# Altium integrated library Altium_IC.IntLib: 17 symbols
Pins are listed as number, name and electrical type; pins without a type are passive.

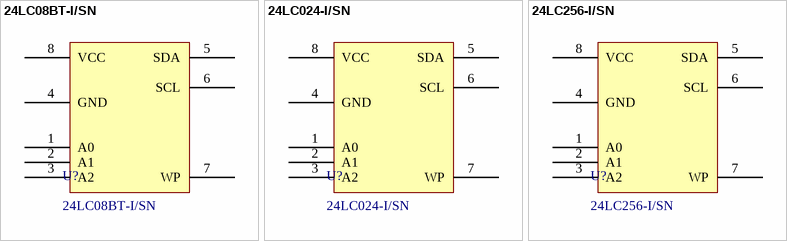
[diagram p0: symbols 24LC08BT-I/SN to 24LC256-I/SN]

## 24LC08BT-I/SN
designator U?
8 Kbit Electrically Erasable PROM; Manufacturer: Microchip; Interface Type: 2-Wire, I2C; Maximum Clock Frequency: 400 kHz; Memory Size: 8 kbit; Supply 1 Name: Mouser; Supply 1 SN: 579-24LC08BT-I/SN; Supply 2 Name: Digikey; Supply 2 SN: 24LC08BT-I/SNTR-ND; Supply 3 Name: thegioiic; Supply Voltage: 2.5 V - 5.5 V; ComponentLink1Description: Datasheet link; ComponentLink1URL: https://www.mouser.vn/datasheet/2/268/24AA08_24LC08B_24FC08_8K_I2C_Serial_EEPROM_2000171-2577012.pdf; ComponentLink2Description: Supply 1 URL; ComponentLink2URL: https://www.mouser.vn/ProductDetail/Microchip-Technology/24LC08BT-I-SN?qs=XNV0BZVlaZHdLDEb4lQBIw%3D%3D; ComponentLink3Description: Supply 2 URL; ComponentLink3URL: https://www.digikey.com/en/products/detail/microchip-technology/24lc08bt-i-sn/318673; ComponentLink4Description: Supply 3 URL; ComponentLink4URL: https://www.thegioiic.com/24lc08b-i-sn-ic-eeprom-8kbit-8-soic; IC Name: 24LC08BT-I/SN; Mounting Style: SMD/SMT; Package: SOIC-8; Supply 3 SN: N/A
footprint 24LCxxx-I/SN (SOIC, 8-Leads, Body 4.90x3.90mm, Pitch 1.27mm, IPC Medium Density)
pins: 1 A0, 2 A1, 3 A2, 4 GND, 5 SDA, 6 SCL, 7 WP, 8 VCC

## 24LC024-I/SN
designator U?
2 Kbit Electrically Erasable PROM; Manufacturer: Microchip; Interface Type: 2-Wire, I2C; Maximum Clock Frequency: 400 kHz; Memory Size: 2 kbit; Supply 1 Name: Mouser; Supply 1 SN: 579-24LC024-I/SN; Supply 2 Name: Digikey; Supply 2 SN: 24LC024-I/SN-ND; Supply 3 Name: thegioiic; Supply Voltage: 2.5 V - 5.5 V; ComponentLink1Description: Datasheet link; ComponentLink1URL: https://www.mouser.vn/datasheet/2/268/24AA024_24LC024_24AA025_24LC025_2_Kbit_I2C_Serial_-3005761.pdf; ComponentLink2Description: Supply 1 URL; ComponentLink2URL: https://www.mouser.vn/ProductDetail/Microchip-Technology/24LC024-I-SN?qs=qEm8%2FJMJY4oS3QxbKWHseA%3D%3D; ComponentLink3Description: Supply 2 URL; ComponentLink3URL: https://www.digikey.com/en/products/detail/microchip-technology/24lc024-i-sn/318656; ComponentLink4Description: Supply 3 URL; ComponentLink4URL: https://www.thegioiic.com/24lc024-i-sn-ic-eeprom-2kbit-8-soic; IC Name: 24LC024-I/SN; Mounting Style: SMD/SMT; Package: SOIC-8; Supply 3 SN: N/A
footprint 24LCxxx-I/SN (SOIC, 8-Leads, Body 4.90x3.90mm, Pitch 1.27mm, IPC Medium Density)
pins: 1 A0, 2 A1, 3 A2, 4 GND, 5 SDA, 6 SCL, 7 WP, 8 VCC

## 24LC256-I/SN
designator U?
256 Kbit Electrically Erasable PROM; Manufacturer: Microchip; Interface Type: 2-Wire, I2C; Maximum Clock Frequency: 400 kHz; Supply 1 Name: Mouser; Supply 1 SN: 579-24LC256-I/SN; Supply 2 Name: Digikey; Supply 2 SN: 24LC256-I/SN-ND; Supply 3 Name: thegioiic; Supply Voltage: 2.5 V - 5.5 V; ComponentLink1Description: Datasheet link; ComponentLink1URL: https://www.mouser.vn/datasheet/2/268/24AA256_24LC256_24FC256_256K_I2C_Serial_EEPROM_DS2-3005041.pdf; ComponentLink2Description: Supply 1 URL; ComponentLink2URL: https://www.mouser.vn/ProductDetail/Microchip-Technology/24LC256-I-SN?qs=XNV0BZVlaZFRtjzs8l%252BLRw%3D%3D; ComponentLink3Description: Supply 2 URL; ComponentLink3URL: https://www.digikey.com/en/products/detail/microchip-technology/24lc256-i-sn/440169; ComponentLink4Description: Supply 3 URL; ComponentLink4URL: https://www.thegioiic.com/24lc256-i-sn-ic-eeprom-256kbit-8-soic; IC Name: 24LC256-I/SN; Memory Size: 256 kbit; Mounting Style: SMD/SMT; Package: SOIC-8; Supply 3 SN: N/A
footprint 24LCxxx-I/SN (SOIC, 8-Leads, Body 4.90x3.90mm, Pitch 1.27mm, IPC Medium Density)
pins: 1 A0, 2 A1, 3 A2, 4 GND, 5 SDA, 6 SCL, 7 WP, 8 VCC


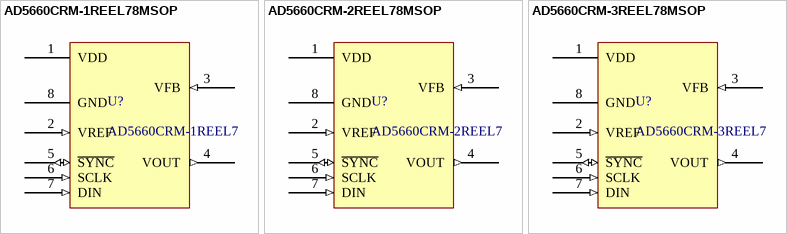
[diagram p1: symbols AD5660CRM-1REEL78MSOP to AD5660CRM-3REEL78MSOP]

## AD5660CRM-1REEL78MSOP
designator U?, comment AD5660CRM-1REEL7
IC DAC 16BIT V-OUT 8MSOP,; Manufacturer: Analog Devices; Number of Converters: 1; Supply Voltage: 2.7 V - 5.5 V; Power Dissipation: 5 mW; Internal Reference: 1.25 V; Sampling Rate: 125 kS/s; Supply 1 Name: Mouser; Supply 1 SN: 584-AD5660CRM-1R7; Supply 2 Name: Digikey; Supply 2 SN: AD5660CRM-1REEL7TR-ND; IC Name: AD5660CRM-1REEL7; Mounting Style: SMD/SMT; Package: MSOP-8; Resolution: 16 bit; ComponentLink1Description: Datasheet link; ComponentLink1URL: https://www.analog.com/media/en/technical-documentation/data-sheets/AD5620_5640_5660.pdf; ComponentLink2Description: Supply 1 URL; ComponentLink2URL: https://www.mouser.vn/ProductDetail/Analog-Devices/AD5660CRM-1REEL7?qs=NmRFExCfTkF7eZy1gDR%252BPw%3D%3D; ComponentLink3Description: Supply 2 URL; ComponentLink3URL: https://www.digikey.com/en/products/detail/analog-devices-inc/AD5660CRM-1REEL7/1217990?s=N4IgTCBcDaIIIBECsA2FAGAwgJQLIFoBGbAURIBkB2EAXQF8g
footprint AD5660xx family (TSOP, 8-Leads, Body 3.00x3.00mm, Pitch 0.65mm, IPC Medium Density)
pins: 1 VDD (power), 2 VREF (in), 3 VFB (in), 4 VOUT (out), 5 ~{SYNC} (io), 6 SCLK (in), 7 DIN (in), 8 GND (power)

## AD5660CRM-2REEL78MSOP
designator U?, comment AD5660CRM-2REEL7
IC DAC 16BIT V-OUT 8MSOP,; Manufacturer: Analog Devices; Number of Converters: 1; Supply Voltage: 2.7 V - 5.5 V; Power Dissipation: 5 mW; Internal Reference: 2.5 V; Sampling Rate: 125 kS/s; Supply 1 Name: Mouser; Supply 1 SN: 584-AD5660CRM-2R7; Supply 2 Name: Digikey; Supply 2 SN: AD5660CRM-2REEL7TR-ND; IC Name: AD5660CRM-2REEL7; Mounting Style: SMD/SMT; Package: MSOP-8; Resolution: 16 bit; ComponentLink1Description: Datasheet link; ComponentLink1URL: https://www.analog.com/media/en/technical-documentation/data-sheets/AD5620_5640_5660.pdf; ComponentLink2Description: Supply 1 URL; ComponentLink2URL: https://www.mouser.vn/ProductDetail/Analog-Devices/AD5660CRM-2REEL7?qs=NmRFExCfTkG3cHMgY6ItXg%3D%3D; ComponentLink3Description: Supply 2 URL; ComponentLink3URL: https://www.digikey.com/en/products/detail/analog-devices-inc/AD5660CRM-2REEL7/1217992?s=N4IgTCBcDaIIIBECsA2FAGAwgJQLIFoxsBRYgGQHYACEAXQF8g
footprint AD5660xx family (TSOP, 8-Leads, Body 3.00x3.00mm, Pitch 0.65mm, IPC Medium Density)
pins: 1 VDD (power), 2 VREF (in), 3 VFB (in), 4 VOUT (out), 5 ~{SYNC} (io), 6 SCLK (in), 7 DIN (in), 8 GND (power)

## AD5660CRM-3REEL78MSOP
designator U?, comment AD5660CRM-3REEL7
IC DAC 16BIT V-OUT 8MSOP,; Manufacturer: Analog Devices; Number of Converters: 1; Supply Voltage: 2.7 V - 5.5 V; Power Dissipation: 5 mW; Internal Reference: 2.5 V; Sampling Rate: 125 kS/s; Supply 1 Name: Mouser; Supply 2 Name: Digikey; Supply 2 SN: AD5660CRM-3REEL7-ND; IC Name: AD5660CRM-3REEL7; Mounting Style: SMD/SMT; Package: MSOP-8; Resolution: 16 bit; Supply 1 SN: N/A; ComponentLink1Description: Datasheet link; ComponentLink1URL: https://www.analog.com/media/en/technical-documentation/data-sheets/AD5620_5640_5660.pdf; ComponentLink2Description: Supply 1 URL; ComponentLink2URL: https://www.mouser.vn/ProductDetail/Analog-Devices/AD5660CRM-3REEL7?qs=BJlw7L4Cy7%2FlHgHV8swbkw%3D%3D; ComponentLink3Description: Supply 2 URL; ComponentLink3URL: https://www.digikey.com/en/products/detail/analog-devices-inc/AD5660CRM-3REEL7/1217994?s=N4IgTCBcDaIIIBECsA2FAGAwgJQLIFoBmbAURIBkB2AAhAF0BfIA
footprint AD5660xx family (TSOP, 8-Leads, Body 3.00x3.00mm, Pitch 0.65mm, IPC Medium Density)
pins: 1 VDD (power), 2 VREF (in), 3 VFB (in), 4 VOUT (out), 5 ~{SYNC} (io), 6 SCLK (in), 7 DIN (in), 8 GND (power)


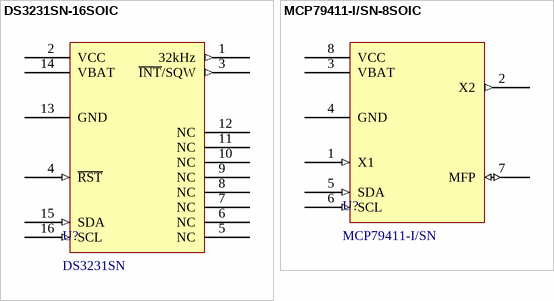
[diagram p2: symbols DS3231SN-16SOIC to MCP79411-I/SN-8SOIC]

## DS3231SN-16SOIC
designator U?, comment DS3231SN
IC RTC CLK/CALENDAR I2C 16SOIC; Manufacturer: Analog Devices Inc./Maxim Integrated; Manufacturer Standard Lead Time: 30 Weeks; Supply Voltage: 2.3 V - 5.5 V; Operating Supply Current: 110 - 170 (µA); RTC Bus Interface: I2C, Serial; Date Format: YY-MM-DD-dd; Time Format: HH:MM:SS (12 hr, 24 hr); Supply 1 Name: Mouser; Supply 1 SN: 700-DS3231SN-; Supply 2 Name: Digikey; Supply 2 SN: DS3231SN#-ND; Supply 3 Name: thegioiic; IC Name: DS3231SN; Mounting Style: SMD/SMT; Package: 16SOIC; ComponentLink1Description: Datasheet link; ComponentLink1URL: https://www.analog.com/media/en/technical-documentation/data-sheets/DS3231.pdf; ComponentLink2Description: Supply 1 URL; ComponentLink2URL: https://www.mouser.com/ProductDetail/Analog-Devices-Maxim-Integrated/DS3231SN?qs=ffX8NcjNb2RmKAb9wAk9Ug%3D%3D; ComponentLink3Description: Supply 2 URL; ComponentLink3URL: https://www.digikey.com/en/products/detail/analog-devices-inc-maxim-integrated/DS3231SN/1197576; Supply 3 SN: N/A; ComponentLink4Description: Supply 3 URL; ComponentLink4URL: https://www.thegioiic.com/ds3231sn-ic-rtc-clock-calendar-16-soic
footprint DS3231SN-16SOIC (SOIC, 16-Leads, Body 11.55x7.50mm, Pitch 1.27mm, IPC Medium Density)
pins: 1 32kHz (out), 2 VCC (power), 3 ~{INT}/SQW (out), 4 ~{RST} (in), 5 NC, 6 NC, 7 NC, 8 NC, 9 NC, 10 NC, 11 NC, 12 NC, 13 GND (power), 14 VBAT (power), 15 SDA (in), 16 SCL (in)

## MCP79411-I/SN-8SOIC
designator U?, comment MCP79411-I/SN
IC RTC CLK/CALENDAR I2C 8SOIC; Manufacturer: Microchip Technology; IC Name: W25Q64FVSSIG; RTC Memory Size: 64B, 1Kb; Supply Voltage: 1.8 V - 5.5 V; Operating Supply Current: 1 uA; RTC Bus Interface: I2C, Serial; Date Format: YY-MM-DD-dd; Time Format: HH:MM:SS (12 hr, 24 hr); Supply 1 Name: Mouser; Supply 1 SN: 579-MCP79411ISN; Supply 2 Name: Digikey; Supply 2 SN: MCP79411-I/SN-ND; Mounting Style: SMD/SMT; Package: 8SOIC; ComponentLink1Description: Datasheet link; ComponentLink1URL: https://ww1.microchip.com/downloads/en/DeviceDoc/MCP79410-MCP79411-MCP79412-Battery-Backed%20I2C-RTCC-20002266J.pdf; ComponentLink2Description: Supply 1 URL; ComponentLink2URL: https://www.mouser.com/ProductDetail/Microchip-Technology/MCP79411-I-SN?qs=ggQiQSXuoRVyEhJRVDc7Dw%3D%3D; ComponentLink3Description: Supply 2 URL; ComponentLink3URL: https://www.digikey.com/en/products/detail/microchip-technology/MCP79411-I-SN/2601461?s=N4IgTCBcDaIKwHYCcBaAsgYQArICwEZ8BJAZQDkQBdAXyA
footprint MCP79411-I/SN-8SOIC (SOIC, 8-Leads, Body 4.90x3.90mm, Pitch 1.27mm, IPC Medium Density)
pins: 1 X1 (in) "Quartz Crystal Input, External Oscillator Input", 2 X2 (out) "Quartz Crystal Output", 3 VBAT (power) "Battery Backup Supply Input", 4 GND (power) "Ground", 5 SDA (in) "Bidirectional Serial Data (I2C)", 6 SCL (in) "Serial Clock (I2C)", 7 MFP (io) "Multifunction Pin", 8 VCC (power) "Primary Power Supply"


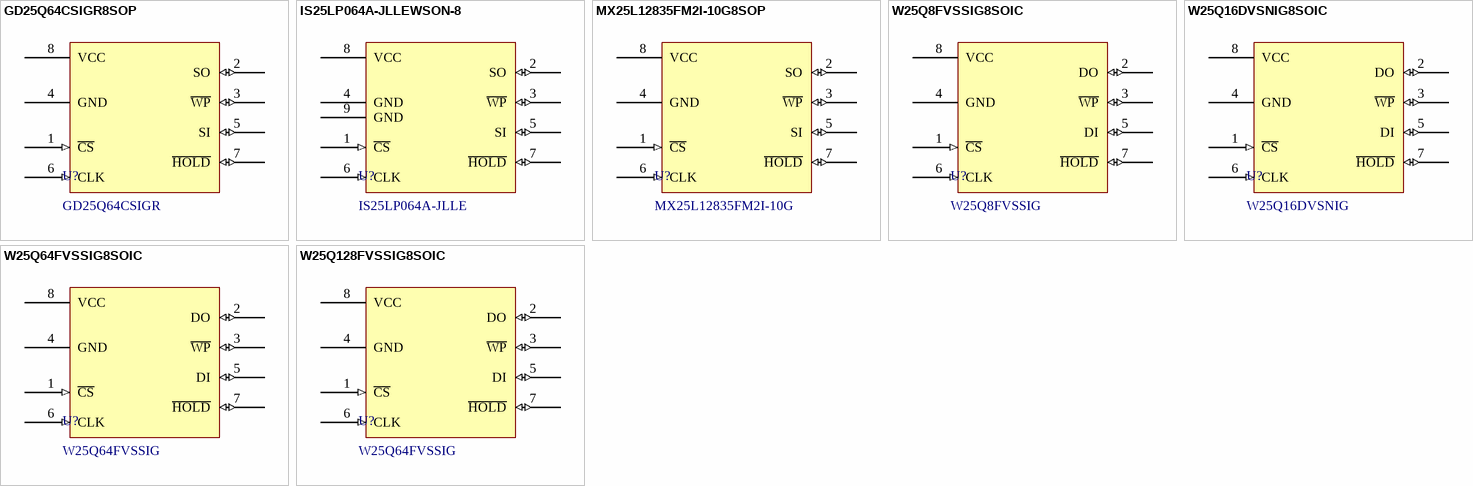
[diagram p3: symbols GD25Q64CSIGR8SOP to W25Q128FVSSIG8SOIC]

## GD25Q64CSIGR8SOP
designator U?, comment GD25Q64CSIGR
IC FLASH 64MBIT SPI/QUAD 8SOP; Manufacturer: GigaDevice Semiconductor (HK) Limited; Supply Voltage: 2.7 V - 3.6 V; Interface Type: SPI - Quad; Maximum Clock Frequency: 480 MHz; Supply 1 Name: Mouser; Supply 1 SN: 363-GD25Q64CSIGR; Supply 2 Name: Digikey; Supply 2 SN: 1970-1026-2-ND; Supply 3 Name: thegioiic; Data Bus Width: 8 bit; IC Name: GD25Q64CSIGR; Mounting Style: SMD/SMT; Package: 8-SOP; Memory Size: 64 Mbit; Active Read Current - Max: N/A; ComponentLink1Description: Datasheet link; ComponentLink1URL: https://datasheet.lcsc.com/lcsc/1912111437_GigaDevice-Semicon-Beijing-GD25Q64CSIGR_C395510.pdf; ComponentLink2Description: Supply 1 URL; ComponentLink2URL: https://www.mouser.vn/ProductDetail/GigaDevice/GD25Q64CSIGR?qs=RcG8xmE7yp10Jy7JYr5cRA%3D%3D; ComponentLink3Description: Supply 2 URL; ComponentLink3URL: https://www.digikey.com/en/products/detail/gigadevice-semiconductor-hk-limited/GD25Q64CSIGR/9484691?s=N4IgTCBcDaIOIBEwFYCKA2ALAYQMoEk4AlEAXQF8g; Supply 3 SN: N/A; ComponentLink4Description: Supply 3 URL; ComponentLink4URL: https://www.thegioiic.com/gd25q64csigr-ic-nho-nor-flash-64mbit-8-sop
footprint GD25Q64CSIGR8SOP (SOP, 8-Leads, Body 5.23x5.28mm, Pitch 1.27mm, IPC Medium Density)
pins: 1 ~{CS} (in), 2 SO (io), 3 ~{WP} (io), 4 GND (power), 5 SI (io), 6 CLK (in), 7 ~{HOLD} (io), 8 VCC (power)

## IS25LP064A-JLLEWSON-8
designator U?, comment IS25LP064A-JLLE
IS25LP064A-JLLE, IC FLASH 64MBIT SPI/QUAD 8WSON; Manufacturer: ISSI; Supply Voltage: 2.3 V - 3.6 V; Active Read Current - Max: 14 mA; Interface Type: QPI, SPI; Maximum Clock Frequency: 133 MHz; Data Bus Width: 8 bit; Supply 1 Name: Mouser; Supply 1 SN: 870-25LP064A-JLLE; Supply 2 Name: Digikey; Supply 2 SN: 706-1608-ND; IC Name: IS25LP064A-JLLE; Mounting Style: SMD/SMT; Package: WSON-8; Memory Size: 64 Mbit; ComponentLink1Description: Datasheet link; ComponentLink1URL: https://www.issi.com/WW/pdf/25LP064A.pdf; ComponentLink2Description: Supply 1 URL; ComponentLink2URL: https://www.mouser.vn/ProductDetail/ISSI/IS25LP064A-JLLE?qs=ULk7ZlyDR4f8APOHOBVPpg%3D%3D; ComponentLink3Description: Supply 2 URL; ComponentLink3URL: https://www.digikey.com/en/products/detail/issi-integrated-silicon-solution-inc/IS25LP064A-JLLE/7567421; ComponentLink4Description: Supply 3 URL; ComponentLink4URL: N.A
footprint IS25LP064A-JLLEWSON-8 (SON, 8-Leads, Body 5.00x6.00mm, Pitch 1.27mm, Thermal Pad 3.40x3.99mm, IPC Medium Density)
pins: 1 ~{CS} (in), 2 SO (io), 3 ~{WP} (io), 4 GND (power), 5 SI (io), 6 CLK (in), 7 ~{HOLD} (io), 8 VCC (power), 9 GND (power)

## MX25L12835FM2I-10G8SOP
designator U?, comment MX25L12835FM2I-10G
IC FLASH 128MBIT SPI 104MHZ 8SOP; Manufacturer: Macronix; Supply Voltage: 2.7 V - 3.6 V; Maximum Clock Frequency: 133 MHz; Supply 1 Name: Digikey; Supply 1 SN: 1092-1197-ND; Supply 2 Name: thegioiic; Data Bus Width: 8 bit; IC Name: MX25L12835FM2I-10G; Mounting Style: SMD/SMT; Package: 8-SOP; Memory Size: 128 Mbit; Active Read Current - Max: N/A; Interface Type: SPI; ComponentLink1Description: Datasheet link; ComponentLink1URL: https://www.macronix.com/Lists/Datasheet/Attachments/8653/MX25L12835F,%203V,%20128Mb,%20v1.6.pdf; ComponentLink2Description: Supply 1 URL; ComponentLink2URL: https://www.digikey.com/en/products/detail/macronix/MX25L12835FM2I-10G/4211569?s=N4IgTCBcDaILIA0wFYAyBGMAOAzMgYnGAJIC06ADAOIgC6AvkA; ComponentLink3Description: Supply 2 URL; ComponentLink3URL: N.A; Supply 2 SN: N/A; ComponentLink4Description: Supply 3 URL; ComponentLink4URL: https://www.thegioiic.com/mx25l12835fm2i-10g-ic-nho-nor-flash-128mbit-8-sop
footprint MX25L12835FM2I-10G8SOP (SOIC, 8-Leads, Body 5.23x5.28mm, Pitch 1.27mm, IPC Medium Density)
pins: 1 ~{CS} (in), 2 SO (io), 3 ~{WP} (io), 4 GND (power), 5 SI (io), 6 CLK (in), 7 ~{HOLD} (io), 8 VCC (power)

## W25Q8FVSSIG8SOIC
designator U?, comment W25Q8FVSSIG
IC FLASH 8MBIT SPI/QUAD 8SOIC; Manufacturer: Winbond Electronics; Supply Voltage: 2.7 V - 3.6 V; Active Read Current - Max: 4 mA; Interface Type: SPI - Quad I/O, QPI; Maximum Clock Frequency: 416 MHz; Data Bus Width: 8 bit; Supply 1 Name: Mouser; Supply 2 Name: Digikey; Supply 2 SN: W25Q64FVSSIG-ND; Supply 3 Name: thegioiic; IC Name: W25Q8FVSSIG; Mounting Style: SMD/SMT; Package: 8SOIC; Memory Size: 8 Mbit; Supply 1 SN: N/A; ComponentLink1Description: Datasheet link; ComponentLink1URL: https://www.winbond.com/resource-files/w25q64fv%20revs%2007182017.pdf; ComponentLink2Description: Supply 1 URL; ComponentLink2URL: https://www.mouser.vn/ProductDetail/Winbond/W25Q64FVSSIG?qs=rkhjVJ6%2F3EIyeN0wt4XchA%3D%3D; ComponentLink3Description: Supply 2 URL; ComponentLink3URL: https://www.digikey.com/en/products/detail/winbond-electronics/W25Q64FVSSIG/2815931; Supply 3 SN: N/A; ComponentLink4Description: Supply 3 URL; ComponentLink4URL: https://www.thegioiic.com/w25q64fvssig-ic-nho-nor-flash-64mbit-8-soic
footprint W25Qxx8SOIC (SOIC, 8-Leads, Body 5.28x5.23mm, Pitch 1.27mm, IPC Medium Density)
pins: 1 ~{CS} (in), 2 DO (io), 3 ~{WP} (io), 4 GND (power), 5 DI (io), 6 CLK (in), 7 ~{HOLD} (io), 8 VCC (power)

## W25Q16DVSNIG8SOIC
designator U?, comment W25Q16DVSNIG
IC FLASH 16MBIT SPI/QUAD 8SOIC; Manufacturer: Winbond Electronics; IC Name: W25Q16FVSSIG; Supply Voltage: 2.7 V - 3.6 V; Active Read Current - Max: 4 mA; Interface Type: SPI - Quad I/O, QPI; Maximum Clock Frequency: 416 MHz; Data Bus Width: 8 bit; Supply 1 Name: Mouser; Supply 2 Name: Digikey; Supply 2 SN: W25Q64FVSSIG-ND; Supply 3 Name: thegioiic; Mounting Style: SMD/SMT; Package: 8SOIC; Memory Size: 16 Mbit; Supply 1 SN: N/A; ComponentLink1Description: Datasheet link; ComponentLink1URL: https://www.winbond.com/resource-files/w25q64fv%20revs%2007182017.pdf; ComponentLink2Description: Supply 1 URL; ComponentLink2URL: https://www.mouser.vn/ProductDetail/Winbond/W25Q64FVSSIG?qs=rkhjVJ6%2F3EIyeN0wt4XchA%3D%3D; ComponentLink3Description: Supply 2 URL; ComponentLink3URL: https://www.digikey.com/en/products/detail/winbond-electronics/W25Q64FVSSIG/2815931; Supply 3 SN: N/A; ComponentLink4Description: Supply 3 URL; ComponentLink4URL: https://www.thegioiic.com/w25q64fvssig-ic-nho-nor-flash-64mbit-8-soic
footprint W25Qxx8SOIC (SOIC, 8-Leads, Body 5.28x5.23mm, Pitch 1.27mm, IPC Medium Density)
pins: 1 ~{CS} (in), 2 DO (io), 3 ~{WP} (io), 4 GND (power), 5 DI (io), 6 CLK (in), 7 ~{HOLD} (io), 8 VCC (power)

## W25Q64FVSSIG8SOIC
designator U?, comment W25Q64FVSSIG
IC FLASH 64MBIT SPI/QUAD 8SOIC; Manufacturer: Winbond Electronics; Supply Voltage: 2.7 V - 3.6 V; Active Read Current - Max: 4 mA; Interface Type: SPI - Quad I/O, QPI; Maximum Clock Frequency: 416 MHz; Data Bus Width: 8 bit; Supply 1 Name: Mouser; Supply 2 Name: Digikey; Supply 2 SN: W25Q64FVSSIG-ND; Supply 3 Name: thegioiic; IC Name: W25Q64FVSSIG; Mounting Style: SMD/SMT; Package: 8SOIC; Memory Size: 64 Mbit; Supply 1 SN: N/A; ComponentLink1Description: Datasheet link; ComponentLink1URL: https://www.winbond.com/resource-files/w25q64fv%20revs%2007182017.pdf; ComponentLink2Description: Supply 1 URL; ComponentLink2URL: https://www.mouser.vn/ProductDetail/Winbond/W25Q64FVSSIG?qs=rkhjVJ6%2F3EIyeN0wt4XchA%3D%3D; ComponentLink3Description: Supply 2 URL; ComponentLink3URL: https://www.digikey.com/en/products/detail/winbond-electronics/W25Q64FVSSIG/2815931; Supply 3 SN: N/A; ComponentLink4Description: Supply 3 URL; ComponentLink4URL: https://www.thegioiic.com/w25q64fvssig-ic-nho-nor-flash-64mbit-8-soic
footprint W25Qxx8SOIC (SOIC, 8-Leads, Body 5.28x5.23mm, Pitch 1.27mm, IPC Medium Density)
pins: 1 ~{CS} (in), 2 DO (io), 3 ~{WP} (io), 4 GND (power), 5 DI (io), 6 CLK (in), 7 ~{HOLD} (io), 8 VCC (power)

## W25Q128FVSSIG8SOIC
designator U?, comment W25Q64FVSSIG
IC FLASH 128MBIT SPI/QUAD 8SOIC; Manufacturer: Winbond Electronics; IC Name: W25Q128FVSSIG; Supply Voltage: 2.7 V - 3.6 V; Active Read Current - Max: 4 mA; Interface Type: SPI - Quad I/O, QPI; Maximum Clock Frequency: 416 MHz; Data Bus Width: 8 bit; Supply 1 Name: Mouser; Supply 1 SN: 454-W25Q128JVSIQTR; Supply 2 Name: Digikey; Supply 2 SN: W25Q64FVSSIG-ND; Supply 3 Name: thegioiic; Mounting Style: SMD/SMT; Package: 8SOIC; Memory Size: 128 Mbit; ComponentLink1Description: Datasheet link; ComponentLink1URL: https://www.winbond.com/resource-files/w25q64fv%20revs%2007182017.pdf; ComponentLink2Description: Supply 1 URL; ComponentLink2URL: https://www.mouser.vn/ProductDetail/Winbond/W25Q128JVSIQ-TR?qs=qSfuJ%252Bfl%2Fd7vTyLA9kNdGw%3D%3D; ComponentLink3Description: Supply 2 URL; ComponentLink3URL: https://www.digikey.com/en/products/detail/winbond-electronics/W25Q64FVSSIG/2815931; Supply 3 SN: N/A; ComponentLink4Description: Supply 3 URL; ComponentLink4URL: https://www.thegioiic.com/w25q64fvssig-ic-nho-nor-flash-64mbit-8-soic
footprint W25Qxx8SOIC (SOIC, 8-Leads, Body 5.28x5.23mm, Pitch 1.27mm, IPC Medium Density)
pins: 1 ~{CS} (in), 2 DO (io), 3 ~{WP} (io), 4 GND (power), 5 DI (io), 6 CLK (in), 7 ~{HOLD} (io), 8 VCC (power)


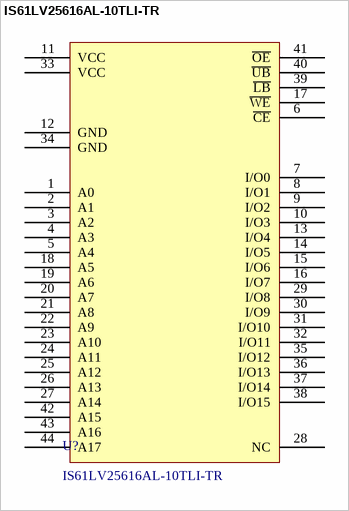
[diagram p4: symbol IS61LV25616AL-10TLI-TR]

## IS61LV25616AL-10TLI-TR
designator U?
256K x 16 HIGH SPEED ASYNCHRONOUS CMOS STATIC RAM WITH 3.3V SUPPLY; Manufacturer: ISSI; Active Read Current - Max: Active; Interface Type: Parallel; Maximum Clock Frequency: 100 MHz; Memory Size: 4 Mbit; Supply 1 Name: Mouser; Supply 1 SN: 87061LV25616AL10TLIT; Supply 2 Name: Digikey; Supply 2 SN: 706-1305-2-ND; Supply 3 Name: thegioiic; Supply Voltage: 3.1 V - 3.6 V; ComponentLink1Description: Datasheet link; ComponentLink1URL: https://www.mouser.vn/datasheet/2/198/61LV25616AL-258498.pdf; ComponentLink2Description: Supply 1 URL; ComponentLink2URL: https://www.mouser.vn/ProductDetail/ISSI/IS61LV25616AL-10TLI-TR?qs=YdQ7Kj7W0bwd5Hs%252BZkTrDw%3D%3D; ComponentLink3Description: Supply 2 URL; ComponentLink3URL: https://www.digikey.com/en/products/detail/gigadevice-semiconductor-hk-limited/GD25Q64CSIGR/9484691?s=N4IgTCBcDaIOIBEwFYCKA2ALAYQMoEk4AlEAXQF8g; ComponentLink4Description: Supply 3 URL; ComponentLink4URL: https://www.digikey.com/en/products/detail/issi-integrated-silicon-solution-inc/is61lv25616al-10tli-tr/1557305; IC Name: IS61LV25616AL-10TLI-TR; Mounting Style: SMD/SMT; Package: 44-TSOP; Supply 3 SN: N/A
footprint IS61LV25616AL-10TLI-TR (TSOP, 44-Leads, Body 18.41x10.16mm, Pitch 0.80mm, IPC Medium Density)
pins: 1 A0, 2 A1, 3 A2, 4 A3, 5 A4, 6 ~{CE}, 7 I/O0, 8 I/O1, 9 I/O2, 10 I/O3, 11 VCC, 12 GND, 13 I/O4, 14 I/O5, 15 I/O6, 16 I/O7, 17 ~{WE}, 18 A5, 19 A6, 20 A7, 21 A8, 22 A9, 23 A10, 24 A11, 25 A12, 26 A13, 27 A14, 28 NC, 29 I/O8, 30 I/O9, 31 I/O10, 32 I/O11, 33 VCC, 34 GND, 35 I/O12, 36 I/O13, 37 I/O14, 38 I/O15, 39 ~{LB}, 40 ~{UB}, 41 ~{OE}, 42 A15, 43 A16, 44 A17


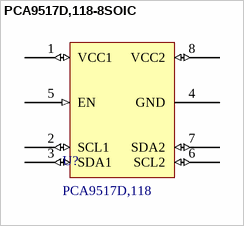
[diagram p5: symbol PCA9517D,118-8SOIC]

## PCA9517D,118-8SOIC
designator U?, comment PCA9517D,118
IC REDRIVER I2C 1CH 400KHZ 8SOIC; Manufacturer: NXP USA Inc.; Supply Voltage: 2.7 V - 5.5 V; Active Read Current - Max: 5 mA; Number of Channels: 2; Capacitance - Input: 6 pF; Supply 1 Name: Mouser; Supply 1 SN: 771-PCA9517D-T; Supply 2 Name: Digikey; Supply 2 SN: 568-1828-2-ND; IC Name: PCA9517D,118; Mounting Style: SMD/SMT; Package: 8SOIC; Applications: I2C; Data Rate (Max): 400 kHz; ComponentLink1Description: Datasheet link; ComponentLink1URL: https://www.nxp.com/docs/en/data-sheet/PCA9517.pdf; ComponentLink2Description: Supply 1 URL; ComponentLink2URL: https://www.mouser.com/ProductDetail/NXP-Semiconductors/PCA9517D118?qs=LOCUfHb8d9vRhua6vNQMbg%3D%3D; ComponentLink3Description: Supply 2 URL; ComponentLink3URL: https://www.digikey.com/en/products/detail/nxp-usa-inc/PCA9517D-118/789917
footprint PCA9517D,118-8SOIC (SOIC, 8-Leads, Body 4.90x3.90mm, Pitch 1.27mm, IPC Medium Density)
pins: 1 VCC1 (io), 2 SCL1 (io), 3 SDA1 (io), 4 GND (power), 5 EN (in), 6 SCL2 (io), 7 SDA2 (io), 8 VCC2 (io)